# Altium schematic symbol library Switch.SchLib: 94 symbols
Pins are listed as number, name and electrical type; pins without a type are passive.

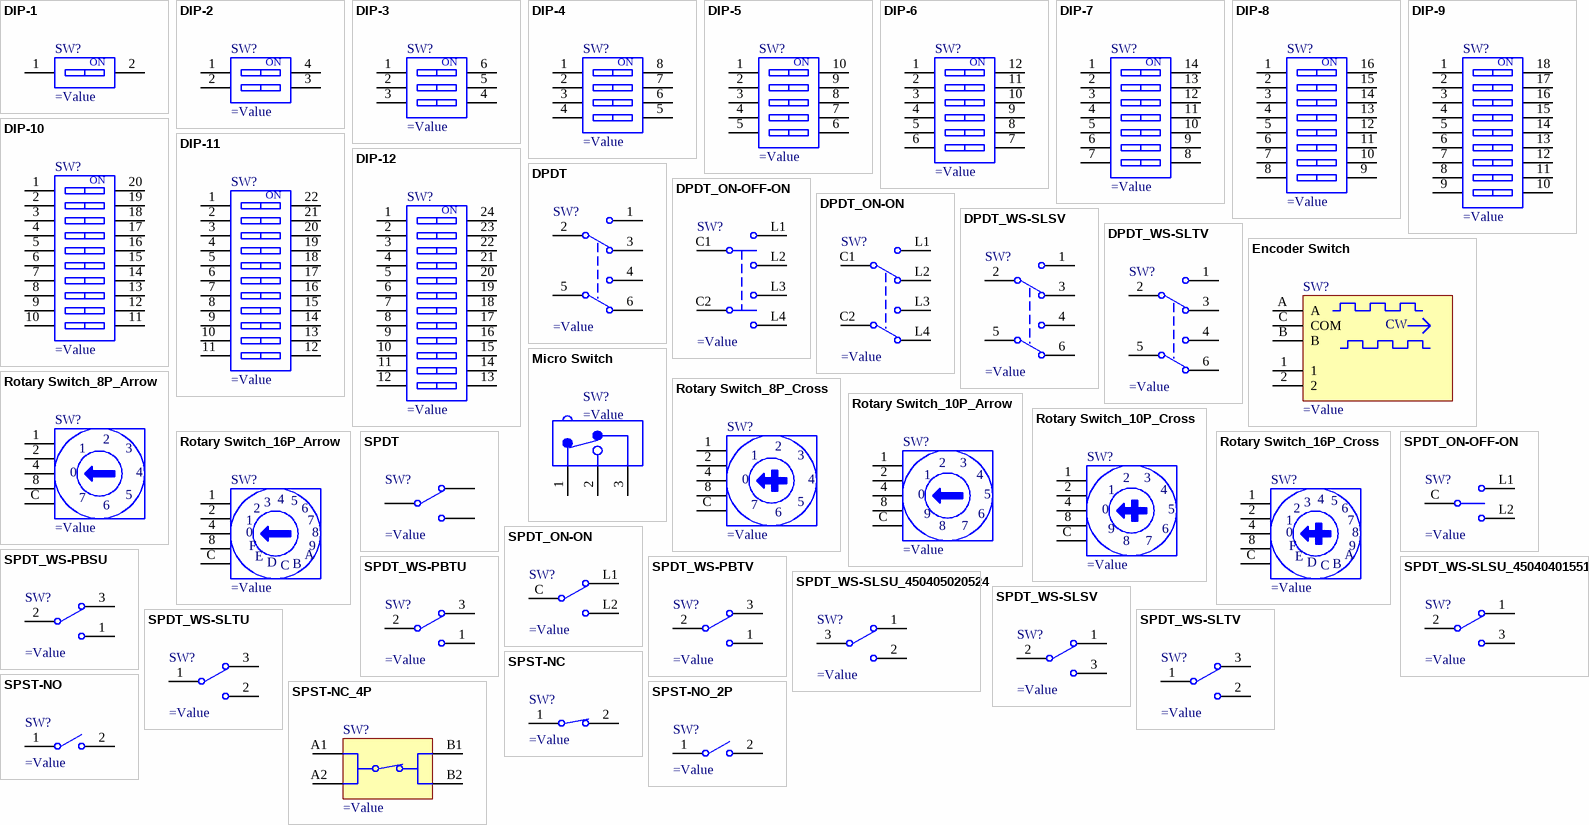
[diagram p0: symbols DIP-1 to SPST-NO_2P]

## DIP-1
designator SW?
pins: 1, 2
text: ON

## DIP-2
designator SW?
pins: 1, 2, 3, 4
text: ON

## DIP-3
designator SW?
pins: 1, 2, 3, 4, 5, 6
text: ON

## DIP-4
designator SW?
pins: 1, 2, 3, 4, 5, 6, 7, 8
text: ON

## DIP-5
designator SW?
pins: 1, 2, 3, 4, 5, 6, 7, 8, 9, 10
text: ON

## DIP-6
designator SW?
pins: 1, 2, 3, 4, 5, 6, 7, 8, 9, 10, 11, 12
text: ON

## DIP-7
designator SW?
pins: 1, 2, 3, 4, 5, 6, 7, 8, 9, 10, 11, 12, 13, 14
text: ON

## DIP-8
designator SW?
pins: 1, 2, 3, 4, 5, 6, 7, 8, 9, 10, 11, 12, 13, 14, 15, 16
text: ON

## DIP-9
designator SW?
pins: 1, 2, 3, 4, 5, 6, 7, 8, 9, 10, 11, 12, 13, 14, 15, 16, 17, 18
text: ON

## DIP-10
designator SW?
pins: 1, 2, 3, 4, 5, 6, 7, 8, 9, 10, 11, 12, 13, 14, 15, 16, 17, 18, 19, 20
text: ON

## DIP-11
designator SW?
pins: 1, 2, 3, 4, 5, 6, 7, 8, 9, 10, 11, 12, 13, 14, 15, 16, 17, 18, 19, 20, 21, 22
text: ON

## DIP-12
designator SW?
pins: 1, 2, 3, 4, 5, 6, 7, 8, 9, 10, 11, 12, 13, 14, 15, 16, 17, 18, 19, 20, 21, 22, 23, 24
text: ON

## DPDT
designator SW?
pins: 1, 2, 3, 4, 5, 6

## DPDT_ON-OFF-ON
designator SW?
pins: C1 COM1, C2 COM2, L1, L2, L3, L4

## DPDT_ON-ON
designator SW?
pins: C1 COM1, C2 COM2, L1, L2, L3, L4

## DPDT_WS-SLSV
designator SW?
pins: 1, 2 COM, 3, 4, 5 COM, 6

## DPDT_WS-SLTV
designator SW?
pins: 1, 2 COM, 3, 4, 5 COM, 6

## Encoder Switch
designator SW?
pins: 1, 2, A "Channel A", B "Channel B", C COM "Common"
text: CW

## Micro Switch
designator SW?
pins: 1 COM, 2 NO, 3 NC

## Rotary Switch_8P_Arrow
designator SW?
pins: 1, 2, 4, 8, C
text: 3; 0; 7; 5; 6

## Rotary Switch_8P_Cross
designator SW?
pins: 1, 2, 4, 8, C
text: 3; 0; 7; 5; 6

## Rotary Switch_10P_Arrow
designator SW?
pins: 1, 2, 4, 8, C
text: 3; 0; 5; 9; 6; 7

## Rotary Switch_10P_Cross
designator SW?
pins: 1, 2, 4, 8, C
text: 3; 0; 5; 9; 6; 7

## Rotary Switch_16P_Arrow
designator SW?
pins: 1, 2, 4, 8, C
text: 3; 5; 6; 7; 0; F; 9; E; A; D; B

## Rotary Switch_16P_Cross
designator SW?
pins: 1, 2, 4, 8, C
text: 3; 5; 6; 7; 0; F; 9; E; A; D; B

## SPDT
designator SW?
pins: COM, L1, L2

## SPDT_ON-OFF-ON
designator SW?
pins: C COM, L1, L2

## SPDT_ON-ON
designator SW?
pins: C COM, L1, L2

## SPDT_WS-PBSU
designator SW?
pins: 1, 2 COM, 3

## SPDT_WS-PBTU
designator SW?
pins: 1, 2 COM, 3

## SPDT_WS-PBTV
designator SW?
pins: 1, 2 COM, 3

## SPDT_WS-SLSU_450404015514
designator SW?
pins: 1, 2 COM, 3

## SPDT_WS-SLSU_450405020524
designator SW?
pins: 1, 2, 3 COM

## SPDT_WS-SLSV
designator SW?
pins: 1, 2 COM, 3

## SPDT_WS-SLTU
designator SW?
pins: 1 COM, 2, 3

## SPDT_WS-SLTV
designator SW?
pins: 1 COM, 2, 3

## SPST-NC
designator SW?
pins: 1, 2

## SPST-NC_4P
designator SW?
pins: A1, A2, B1, B2

## SPST-NO
designator SW?
pins: 1, 2

## SPST-NO_2P
designator SW?
pins: 1, 2

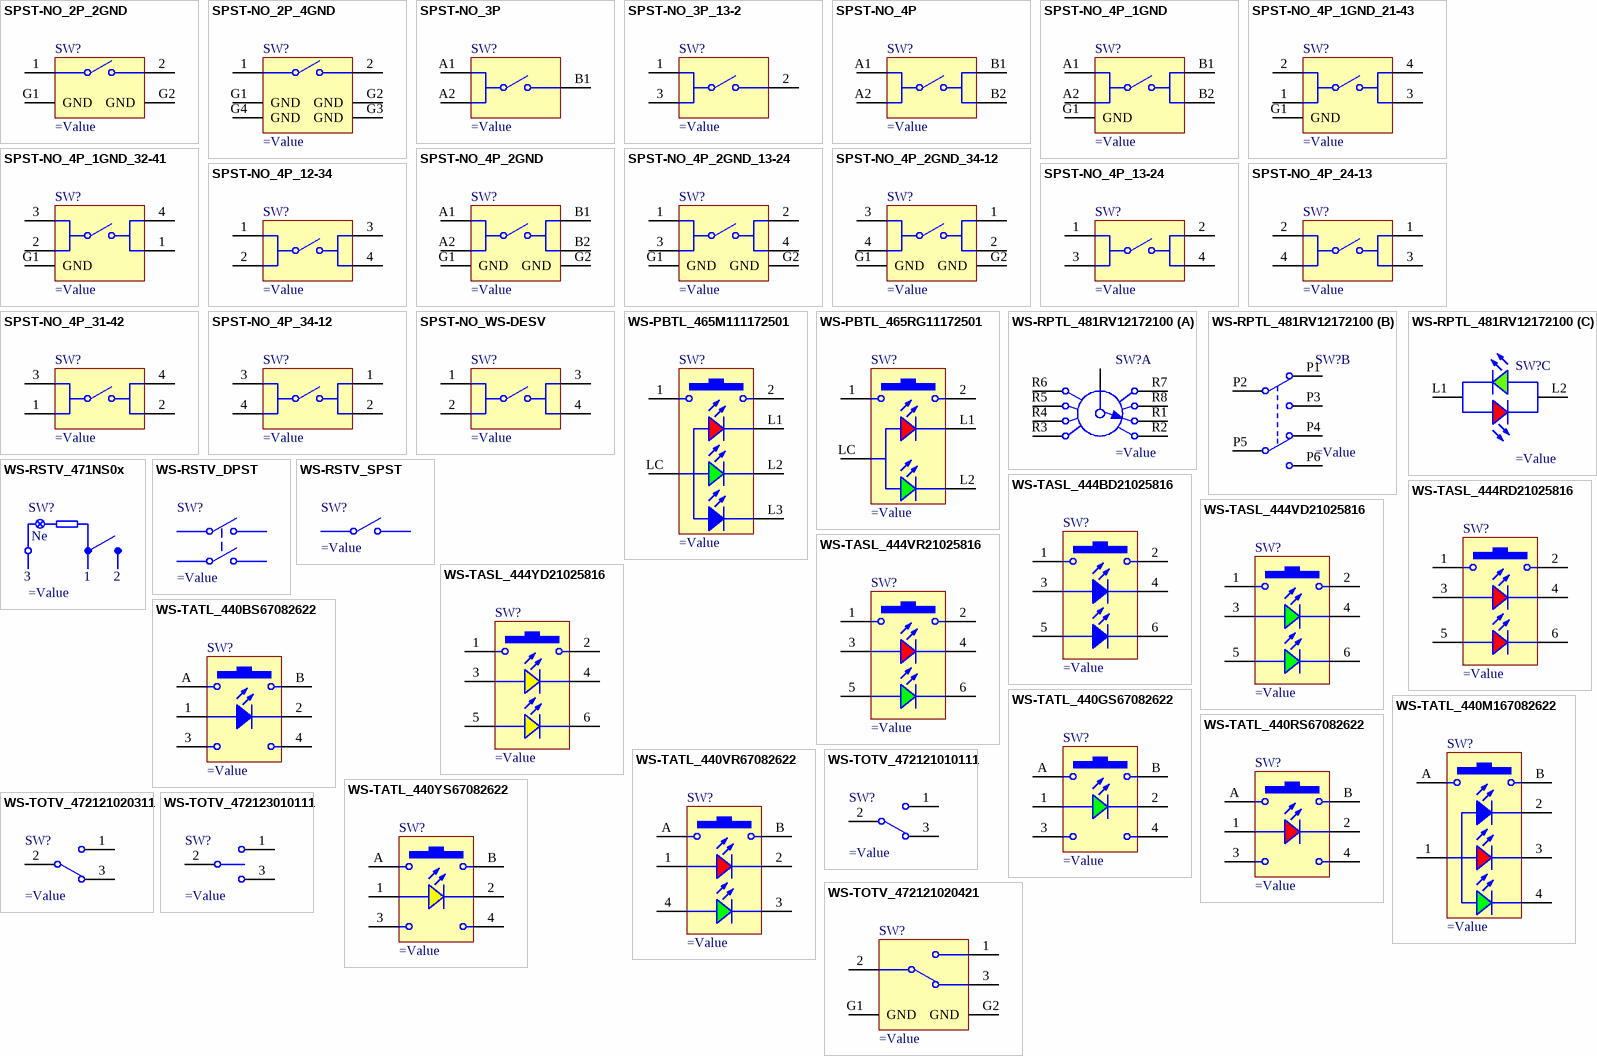
[diagram p1: symbols SPST-NO_2P_2GND to WS-TOTV_472123010111]

## SPST-NO_2P_2GND
designator SW?
pins: 1, 2, G1 GND, G2 GND

## SPST-NO_2P_4GND
designator SW?
pins: 1, 2, G1 GND, G2 GND, G3 GND, G4 GND

## SPST-NO_3P
designator SW?
pins: A1, A2, B1

## SPST-NO_3P_13-2
designator SW?
pins: 1, 2, 3

## SPST-NO_4P
designator SW?
pins: A1, A2, B1, B2

## SPST-NO_4P_1GND
designator SW?
pins: A1, A2, B1, B2, G1 GND

## SPST-NO_4P_1GND_21-43
designator SW?
pins: 1, 2, 3, 4, G1 GND

## SPST-NO_4P_1GND_32-41
designator SW?
pins: 1, 2, 3, 4, G1 GND

## SPST-NO_4P_2GND
designator SW?
pins: A1, A2, B1, B2, G1 GND, G2 GND

## SPST-NO_4P_2GND_13-24
designator SW?
pins: 1, 2, 3, 4, G1 GND, G2 GND

## SPST-NO_4P_2GND_34-12
designator SW?
pins: 1, 2, 3, 4, G1 GND, G2 GND

## SPST-NO_4P_12-34
designator SW?
pins: 1, 2, 3, 4

## SPST-NO_4P_13-24
designator SW?
pins: 1, 2, 3, 4

## SPST-NO_4P_24-13
designator SW?
pins: 1, 2, 3, 4

## SPST-NO_4P_31-42
designator SW?
pins: 1, 2, 3, 4

## SPST-NO_4P_34-12
designator SW?
pins: 1, 2, 3, 4

## SPST-NO_WS-DESV
designator SW?
pins: 1, 2, 3, 4

## WS-PBTL_465M111172501
designator SW?
pins: 1, 2, L1, L2, L3, LC

## WS-PBTL_465RG11172501
designator SW?
pins: 1, 2, L1, L2, LC

## WS-RPTL_481RV12172100
designator SW?
part A pins: C, R1, R2, R3, R4, R5, R6, R7, R8
part B pins: P1, P2, P3, P4, P5, P6
part C pins: L1, L2

## WS-RSTV_471NS0x
designator SW?
text: Ne; 3; 1; 2

## WS-RSTV_DPST
designator SW?

## WS-RSTV_SPST
designator SW?

## WS-TASL_444BD21025816
designator SW?
pins: 1, 2, 3, 4, 5, 6

## WS-TASL_444RD21025816
designator SW?
pins: 1, 2, 3, 4, 5, 6

## WS-TASL_444VD21025816
designator SW?
pins: 1, 2, 3, 4, 5, 6

## WS-TASL_444VR21025816
designator SW?
pins: 1, 2, 3, 4, 5, 6

## WS-TASL_444YD21025816
designator SW?
pins: 1, 2, 3, 4, 5, 6

## WS-TATL_440BS67082622
designator SW?
pins: 1, 2, 3, 4, A, B

## WS-TATL_440GS67082622
designator SW?
pins: 1, 2, 3, 4, A, B

## WS-TATL_440M167082622
designator SW?
pins: 1, 2, 3, 4, A, B

## WS-TATL_440RS67082622
designator SW?
pins: 1, 2, 3, 4, A, B

## WS-TATL_440VR67082622
designator SW?
pins: 1, 2, 3, 4, A, B

## WS-TATL_440YS67082622
designator SW?
pins: 1, 2, 3, 4, A, B

## WS-TOTV_472121010111
designator SW?
pins: 1, 2, 3

## WS-TOTV_472121020311
designator SW?
pins: 1, 2, 3

## WS-TOTV_472121020421
designator SW?
pins: 1, 2, 3, G1 GND, G2 GND

## WS-TOTV_472123010111
designator SW?
pins: 1, 2, 3

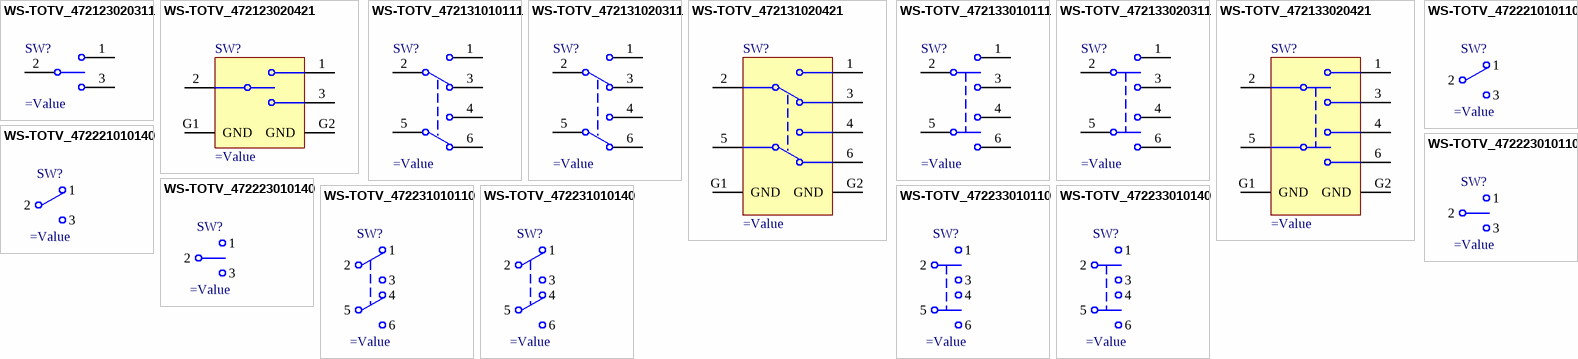
[diagram p2: symbols WS-TOTV_472123020311 to WS-TOTV_472233010140]

## WS-TOTV_472123020311
designator SW?
pins: 1, 2, 3

## WS-TOTV_472123020421
designator SW?
pins: 1, 2, 3, G1 GND, G2 GND

## WS-TOTV_472131010111
designator SW?
pins: 1, 2, 3, 4, 5, 6

## WS-TOTV_472131020311
designator SW?
pins: 1, 2, 3, 4, 5, 6

## WS-TOTV_472131020421
designator SW?
pins: 1, 2, 3, 4, 5, 6, G1 GND, G2 GND

## WS-TOTV_472133010111
designator SW?
pins: 1, 2, 3, 4, 5, 6

## WS-TOTV_472133020311
designator SW?
pins: 1, 2, 3, 4, 5, 6

## WS-TOTV_472133020421
designator SW?
pins: 1, 2, 3, 4, 5, 6, G1 GND, G2 GND

## WS-TOTV_472221010110
designator SW?
text: 1; 2; 3

## WS-TOTV_472221010140
designator SW?
text: 1; 2; 3

## WS-TOTV_472223010110
designator SW?
text: 1; 2; 3

## WS-TOTV_472223010140
designator SW?
text: 1; 2; 3

## WS-TOTV_472231010110
designator SW?
text: 1; 2; 3; 4; 5; 6

## WS-TOTV_472231010140
designator SW?
text: 1; 2; 3; 4; 5; 6

## WS-TOTV_472233010110
designator SW?
text: 1; 2; 3; 4; 5; 6

## WS-TOTV_472233010140
designator SW?
text: 1; 2; 3; 4; 5; 6